# Altium footprint library 28Pins_Project.PcbLib: 27 footprints (part 2 of 2)
Each footprint in its own frame and in the unit in brackets; x right, y up, seen from the top. Pads: shape width x height; smd on the part's side, far side on the other; paste and mask are expansions set on the pad; w line width, h text height; cw(c..) or ccw(c..) is an arc to the next point about the centre after c.
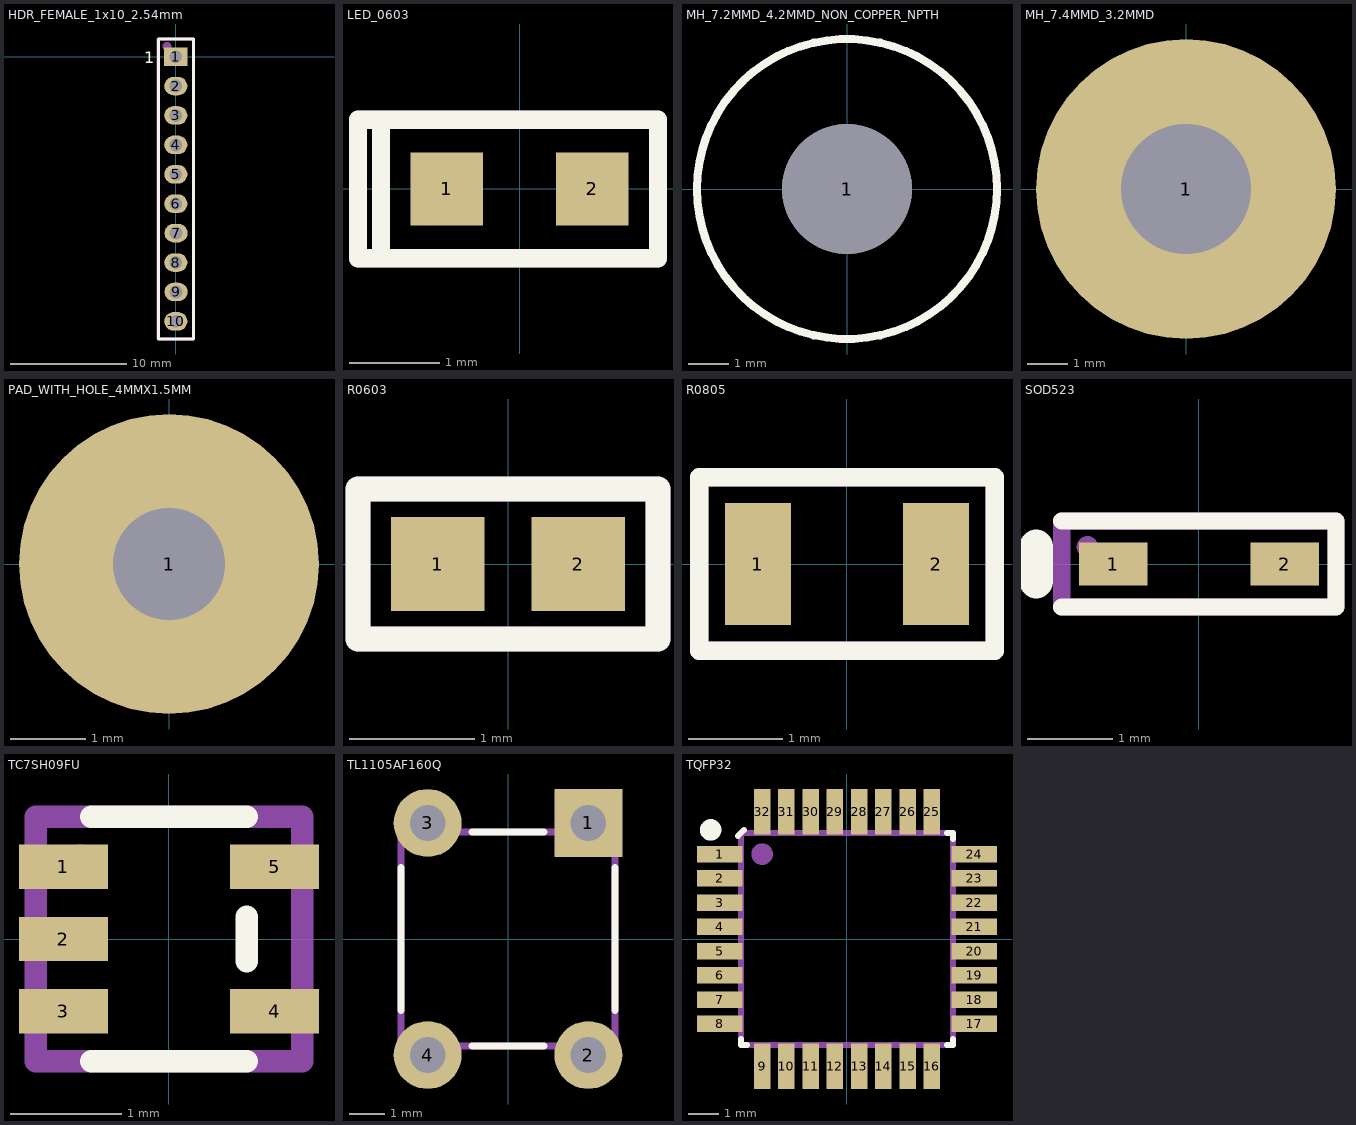
[diagram p1: the footprints below, top view; thin cyan lines are the x and y axes]

## HDR_FEMALE_1x10_2.54mm [mm]
pads (10):
  rect 2x1.6 hole 1.1: 1(0,0)
  oval 2x1.6 hole 1.1: 2(0,-2.54) 3(0,-5.08) 4(0,-7.62) 5(0,-10.16) 6(0,-12.7) 7(0.02,-15.24) 8(0,-17.78) 9(0.02,-20.32) 10(0,-22.86)
Top Overlay:
  lines w0.254: -1.504,-24.384 1.544,-24.384 1.544,1.27 1.544,1.504 1.524,1.524 0.718,1.524 0.528,1.524 -0.996,1.524 -1.504,1.524 -1.504,-24.384
  text "1" at -2.721,-0.562 h1
Mechanical 29:
  circle w0.508: c-0.762,0.889 r0.127
  lines w0.254: -1.524,-24.384 -1.524,1.524 1.524,1.524 1.524,-24.384 -1.524,-24.384
  text ".Designator" at 0.347,-9.957 h1.02
3D body "m20-7821046_asm.stp": height 8.31, standoff -3.19, extent -1.25,-24.33 1.25,1.47

## LED_0603 [mm]
pads (2):
  rect 0.8x0.8 smd: 1(-0.8,0) 2(0.8,0)
Top Overlay:
  lines w0.2: -1.778,-0.508 -1.778,0.508 ; -1.524,-0.762 -1.524,0.762 ; -1.524,-0.762 1.524,-0.762 1.524,0.762 -1.524,0.762 ; -1.524,-0.762 -1.778,-0.762 -1.778,0.762 -1.524,0.762
Mechanical 29:
  lines w0.2: -1.778,-0.762 -1.778,0.762 ; -1.778,-0.762 -1.778,0.762 ; -1.778,-0.762 -1.524,-0.762 -1.524,0.762 ; -1.778,-0.762 1.524,-0.762 1.524,0.762 -1.524,0.762 ; -1.778,0.762 -1.524,0.762
  text ".Designator" at -0.792,-0.115 h0.51
3D body "User Library-LED SMD 0603 super red.STEP": height 0.65, standoff 0, extent -0.85,-0.4 0.85,0.4
3D body: height 0.66, standoff 0.5, extent -0.2,-0.15 0.2,0.15

## MH_7.2MMD_4.2MMD_NON_COPPER_NPTH [mm] "MH_7.2MMD_4.2MMD_NON_COPPER_NPTH"
pads (1):
  round 3.2 hole 3.2 unplated: 1(0,0)
Top Layer:
  circle w0.1: c0.7,0 r0.7
Top Overlay:
  circle w0.2: c0,0 r3.7

## MH_7.4MMD_3.2MMD [mm]
pads (1):
  round 7.4 hole 3.2: 1(0,0)

## PAD_WITH_HOLE_4MMX1.5MM [mm]
pads (1):
  round 4 hole 1.5: 1(0,0)

## R0603 [mm]
pads (2):
  rect 0.75x0.75 smd: 1(-0.562,0) 2(0.563,0)
Top Overlay:
  lines w0.2: -1.2,-0.6 1.2,-0.6 1.2,0.6 -1.2,0.6 -1.2,-0.6
Mechanical 29:
  lines w0.2: -1.2,-0.6 1.2,-0.6 1.2,0.6 -1.2,0.6 -1.2,-0.6
  text ".Designator" at -0.5,-0.233 h0.5
3D body "cg0603mlc.stp": height 0.45, standoff 0, extent -0.8,-0.4 0.8,0.4

## R0805 [mm]
pads (2):
  rect 0.7x1.3 smd: 1(-0.95,0) 2(0.95,0)
Top Overlay:
  lines w0.2: -1.575,-0.925 1.575,-0.925 1.575,0.925 -1.575,0.925 -1.575,-0.925
Mechanical 29:
  lines w0.2: -1.575,-0.925 1.575,-0.925 1.575,0.925 -1.575,0.925 -1.575,-0.925
  text ".Designator" at -0.92,-0.087 h0.4
3D body "RC0805FR-071ML.STEP": height 0.58, standoff -0.02, extent -1,-0.625 1,0.625

## SOD523 [mm]
pads (2):
  rect 0.8x0.5 smd: 1(-1,0) 2(1,0)
Top Overlay:
  lines w0.2: -1.6,-0.5 1.6,-0.5 1.6,0.5 -1.6,0.5
  lines w0.4: -1.9,-0.2 -1.9,0.2
Mechanical 29:
  circle w0.15: c-1.3,0.2 r0.05
  lines w0.2: -1.6,-0.5 1.6,-0.5 1.6,0.5 -1.6,0.5 -1.6,-0.5
  text ".Designator" at -0.9,-0.267 h0.4
3D body "User Library-SOD-523F.step": height 0.69, standoff -0.01, extent -0.8,-0.399 0.8,0.399

## TC7SH09FU [mm]
pads (5):
  rect 0.8x0.4 smd: 1(-0.95,0.65) 2(-0.95,0) 3(-0.95,-0.65) 4(0.95,-0.65) 5(0.95,0.65)
Top Overlay:
  lines w0.2: -0.7,-1.1 0.7,-1.1 ; 0,1.1 -0.7,1.1 0.7,1.1 ; 0.7,-0.2 0.7,0.2
Mechanical 29:
  circle w0.2: c-0.8,0.7 r0.05
  lines w0.2: -1.2,-1.1 -1.2,1.1 0,1.1 1.2,1.1 1.2,-1.1 -1.2,-1.1
  text ".Designator" at -0.3,-0.2 h0.6
3D body "User Library-SOT353-1.step": height 1.1, standoff 0, extent -1.2,-1.1 1.2,1.1

## TL1105AF160Q [mm]
pads (4):
  rect 1.9x1.9 hole 1: 1(2.25,3.25)
  round 1.9 hole 1: 2(2.25,-3.25) 3(-2.25,3.25) 4(-2.25,-3.25)
Top Overlay:
  lines w0.2: -3,-2 -3,2 ; -1,-3 1,-3 ; -1,3 1,3 ; 3,-2 3,2
Mechanical 29:
  lines w0.2: -3,-3 -3,3 3,3 3,-3 -1,-3 -3,-3
  text ".Designator" at -1.859,-0.767 h1.6
3D body "User Library-FSM2JLH(1825910-1).step": height 4.3, standoff -3.51, extent -2.995,-3.898 2.995,3.9

## TQFP32 [mm]
pads (32):
  rect 1.5x0.55 smd mask+0.06: 1(-4.2,2.8) 2(-4.2,2) 3(-4.2,1.2) 4(-4.2,0.4) 5(-4.2,-0.4) 6(-4.2,-1.2) 7(-4.2,-2) 8(-4.2,-2.8) 17(4.2,-2.8) 18(4.2,-2) 19(4.2,-1.2) 20(4.2,-0.4) 21(4.2,0.4) 22(4.2,1.2) 23(4.2,2) 24(4.2,2.8)
  rect 0.55x1.5 smd mask+0.06: 9(-2.8,-4.2) 10(-2,-4.2) 11(-1.2,-4.2) 12(-0.4,-4.2) 13(0.4,-4.2) 14(1.2,-4.2) 15(2,-4.2) 16(2.8,-4.2) 25(2.8,4.2) 26(2,4.2) 27(1.2,4.2) 28(0.4,4.2) 29(-0.4,4.2) 30(-1.2,4.2) 31(-2,4.2) 32(-2.8,4.2)
Top Overlay:
  circle w0.508: c-4.5,3.6 r0.1
  lines w0.2: -3.6,3.4 -3.4,3.6 ; -3.3,-3.5 -3.5,-3.5 ; 3.3,3.5 3.5,3.5 ; 3.5,-3.3 3.5,-3.5 ; -3.5,-3.5 -3.5,-3.3 -3.5,-3.5 ; 3.5,-3.5 3.3,-3.5 3.5,-3.5 ; 3.5,3.5 3.5,3.3 3.5,3.5
Mechanical 29:
  circle w0.508: c-2.8,2.8 r0.1
  lines w0.2: -3.5,-3.5 -3.5,3.5 3.5,3.5 3.5,-3.5 -3.5,-3.5
  text ".Designator" at -1.45,-0.383 h0.8
3D body "SW3dPS-tqfp32.STEP": height 1.2, standoff 0, extent -4.599,-4.599 4.599,4.6